# Altium footprint library Drossel.PcbLib: 60 footprints (part 4 of 4)
Each footprint in its own frame and in the unit in brackets; x right, y up, seen from the top. Pads: shape width x height; smd on the part's side, far side on the other; paste and mask are expansions set on the pad; w line width, h text height; cw(c..) or ccw(c..) is an arc to the next point about the centre after c.
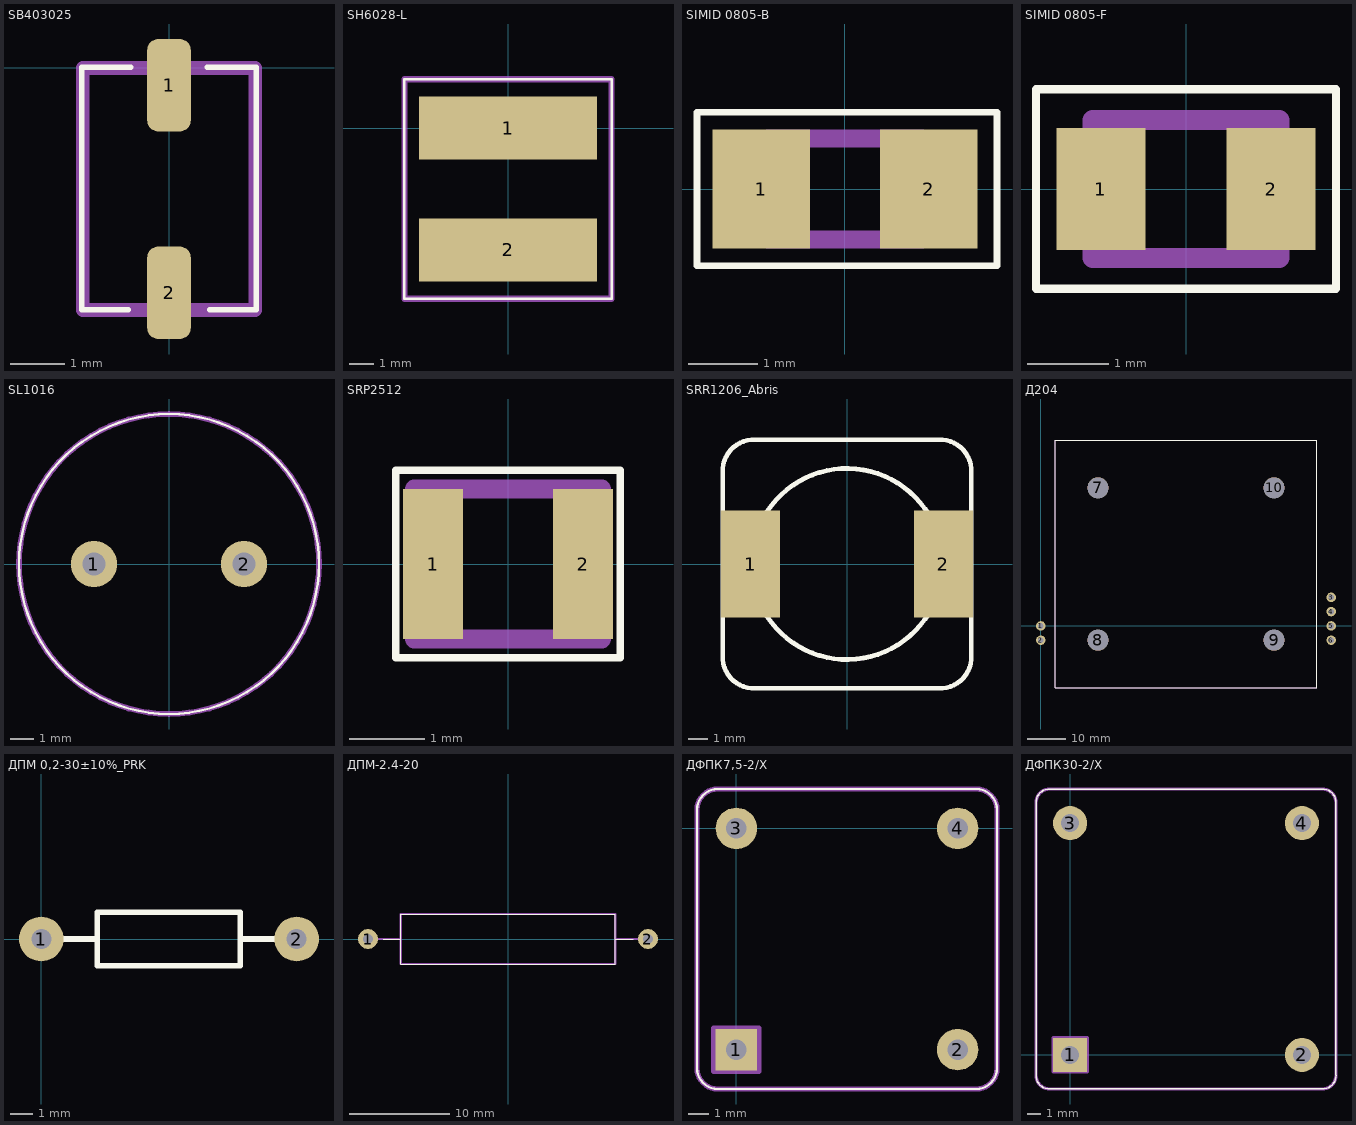
[diagram p3: the footprints below, top view; thin cyan lines are the x and y axes]

## SB403025 [mm]
pads (2):
  rrect50% 0.8x1.7 smd: 1(0,-0.318) 2(0,-4.127)
Top Overlay:
  lines w0.1: -0.75,-4.44 -1.6,-4.44 -1.6,0.01 -0.7,0.01 ; 0.7,0.01 1.6,0.01 1.6,-4.44 0.75,-4.44
Mechanical 1:
  lines w0.25: -1.587,-4.445 1.587,-4.445 1.587,0 -1.587,0 -1.587,-4.445

## SH6028-L [mm]
pads (2):
  rect 7.3x2.6 smd: 1(0,0) 2(0,-5)
Top Overlay:
  lines w0.1: -4.25,-7 4.25,-7 4.25,2 -4,2 -4.25,2 -4.25,-7
Mechanical 1:
  lines w0.25: -4.25,-7 4.25,-7 4.25,2 -4,2 -4.25,2 -4.25,-7

## SIMID 0805-B [mm]
pads (2):
  rect 1.4x1.7 smd: 1(-1.2,0) 2(1.2,0)
Top Overlay:
  lines w0.1: -2.12,-1.1 2.18,-1.1 2.18,1.1 -2.12,1.1 -2.12,-1.1
Mechanical 1:
  lines w0.254: -1.1,-0.725 1.1,-0.725 1.1,0.725 -1.1,0.725 -1.1,-0.725

## SIMID 0805-F [mm]
pads (2):
  rect 1.1x1.5 smd: 1(-1.05,0) 2(1.05,0)
Top Overlay:
  lines w0.1: -1.85,-1.23 1.85,-1.23 1.85,1.23 -1.85,1.23 -1.85,-1.23
Mechanical 1:
  lines w0.25: -1.15,-0.85 1.15,-0.85 1.15,0.85 -1.15,0.85 -1.15,-0.85

## SL1016 [mm]
pads (2):
  round 2 hole 1: 1(-3.25,0) 2(3.25,0)
Top Overlay:
  lines w0.1: -6.5,0 cw(c0,0) 6.5,0 cw(c0,0) -6.5,0
Mechanical 1:
  lines w0.25: -6.5,0 cw(c0,0) 6.5,0 cw(c0,0) -6.5,0

## SRP2512 [mm]
pads (2):
  rect 0.8x2 smd: 1(-1,0) 2(1,0)
Top Overlay:
  lines w0.1: -1.5,-1.25 1.5,-1.25 1.5,1.25 -1.5,1.25 -1.5,-1.25
Mechanical 1:
  lines w0.25: -1.25,-1 1.25,-1 1.25,1 -1.25,1 -1.25,-1

## SRR1206_Abris [mm]
pads (2):
  rect 3.1x5.6 smd: 1(-5.05,0) 2(5.05,0)
Top Overlay:
  circle w0.25: c0,0 r5
  lines w0.25: -6.5,-5 ccw(c-4.875,-4.875) -5,-6.5 5,-6.5 ccw(c4.875,-4.875) 6.5,-5 6.5,5 ccw(c4.875,4.875) 5,6.5 -5,6.5 ccw(c-4.875,4.875) -6.5,5 -6.5,-5
Mechanical 1:
  lines w0.15: -6.5,-3.1 -6.5,-5 ccw(c-4.875,-4.875) -5,-6.5 5,-6.5 ccw(c4.875,-4.875) 6.5,-5 6.5,-3.1 ; -6.5,3.1 -6.5,5 cw(c-4.875,4.875) -5,6.5 5,6.5 cw(c4.875,4.875) 6.5,5 6.5,3.1 ; -3.986,2.985 cw(c0,0.1) 3.986,2.985 ; -3.898,-3.102 ccw(c0,-0.1) 3.898,-3.102

## Д204 [mm]
pads (10):
  round 2.5 hole 1.5: 1(0,0) 2(0,-3.75) 3(76.25,7.5) 4(76.25,3.75) 5(76.25,0) 6(76.25,-3.75)
  round 5.5 hole 5.5 unplated: 7(15,36.25) 8(15,-3.75) 9(61.25,-3.75) 10(61.25,36.25)
Top Overlay:
  lines w0.1: 3.75,-16.25 72.5,-16.25 72.5,48.75 3.75,48.75 3.75,-16.25
Mechanical 1:
  lines w0.25: 3.75,-16.25 72.5,-16.25 72.5,48.75 3.75,48.75 3.75,-16.25

## ДПМ 0,2-30±10%_PRK [mm]
pads (2):
  round 2 hole 0.9: 1(0,0) 2(11.43,0)
Top Overlay:
  lines w0.1: -0.635,0 0,0 ; 0,-0.635 0,0.635 ; 11.4,0 12.065,0 ; 11.43,-0.635 11.43,0.635
  lines w0.254: 0,0 2.5,0 ; 8.9,0 11.4,0 ; 2.5,-1.2 8.9,-1.2 8.9,1.2 2.5,1.2 2.5,-1.2

## ДПМ-2.4-20 [mm]
pads (2):
  round 2 hole 1: 1(-14,0) 2(14,0)
Top Overlay:
  lines w0.1: -12.5,0 -10.75,0 ; 10.75,0 12.5,0 ; -10.75,0 -10.75,2.5 10.75,2.5 10.75,-2.5 -10.75,-2.5 -10.75,0
Mechanical 1:
  lines w0.25: -14,0 -10.75,0 ; 14,0 10.75,0 ; -10.75,0 -10.75,2.5 10.75,2.5 10.75,0 ; -10.75,0 -10.75,-2.5 10.75,-2.5 10.75,0

## ДФПК7,5-2/Х [mm]
pads (4):
  rect 2x2 hole 1: 1(0,-10.7)
  round 2 hole 1: 2(10.7,-10.7) 3(0,0) 4(10.7,0)
Top Overlay:
  lines w0.1: -1.9,-11.6 ccw(c-0.9,-11.6) -0.9,-12.6 11.6,-12.6 ccw(c11.6,-11.6) 12.6,-11.6 12.6,0.9 ccw(c11.6,0.9) 11.6,1.9 -0.9,1.9 ccw(c-0.9,0.9) -1.9,0.9 -1.9,-11.6
Mechanical 1:
  circle w0.25: c10.7,0 r0.5
  circle w0.25: c10.7,-10.7 r0.5
  circle w0.25: c0,0 r0.5
  circle w0.25: c0,-10.7 r0.5
  lines w0.25: -1.9,-11.6 ccw(c-0.9,-11.6) -0.9,-12.6 11.6,-12.6 ccw(c11.6,-11.6) 12.6,-11.6 12.6,0.9 ccw(c11.6,0.9) 11.6,1.9 -0.9,1.9 ccw(c-0.9,0.9) -1.9,0.9 -1.9,-11.6 ; -1.1,-11.75 1.1,-11.75 1.1,-9.65 -1.1,-9.65 -1.1,-11.75
  text "4" at 8.25,-0.75 h0.94
  text "2" at 8,-11.5 h0.94
  text "3" at 1.5,-1 h0.94
  text "1" at 1.25,-11.5 h0.94

## ДФПК30-2/Х [mm]
pads (4):
  rect 2.5x2.5 hole 1.3: 1(0,0)
  round 2.5 hole 1.3: 2(17,0) 3(0,17) 4(17,17)
Top Overlay:
  lines w0.1: -2.5,-1.5 ccw(c-1.5,-1.5) -1.5,-2.5 18.5,-2.5 ccw(c18.5,-1.5) 19.5,-1.5 19.5,18.5 ccw(c18.5,18.5) 18.5,19.5 -1.5,19.5 ccw(c-1.5,18.5) -2.5,18.5 -2.5,-1.5
Mechanical 1:
  circle w0.25: c0,0 r0.5
  circle w0.25: c0,17 r0.5
  circle w0.25: c17,0 r0.5
  circle w0.25: c17,17 r0.5
  lines w0.25: -2.5,-1.5 ccw(c-1.5,-1.5) -1.5,-2.5 18.5,-2.5 ccw(c18.5,-1.5) 19.5,-1.5 19.5,18.5 ccw(c18.5,18.5) 18.5,19.5 -1.5,19.5 ccw(c-1.5,18.5) -2.5,18.5 -2.5,-1.5 ; -1.25,-1.25 1.25,-1.25 1.25,1.25 -1.25,1.25 -1.25,-1.25
  text "3" at -0.5,13.75 h0.94
  text "1" at -0.5,1.75 h0.94
  text "4" at 16.5,14.25 h0.94
  text "2" at 16.5,1.5 h0.94